# Altium footprint library FOC-PMSM1.PcbLib: 24 footprints (part 2 of 2)
Each footprint in its own frame and in the unit in brackets; x right, y up, seen from the top. Pads: shape width x height; smd on the part's side, far side on the other; paste and mask are expansions set on the pad; w line width, h text height; cw(c..) or ccw(c..) is an arc to the next point about the centre after c.
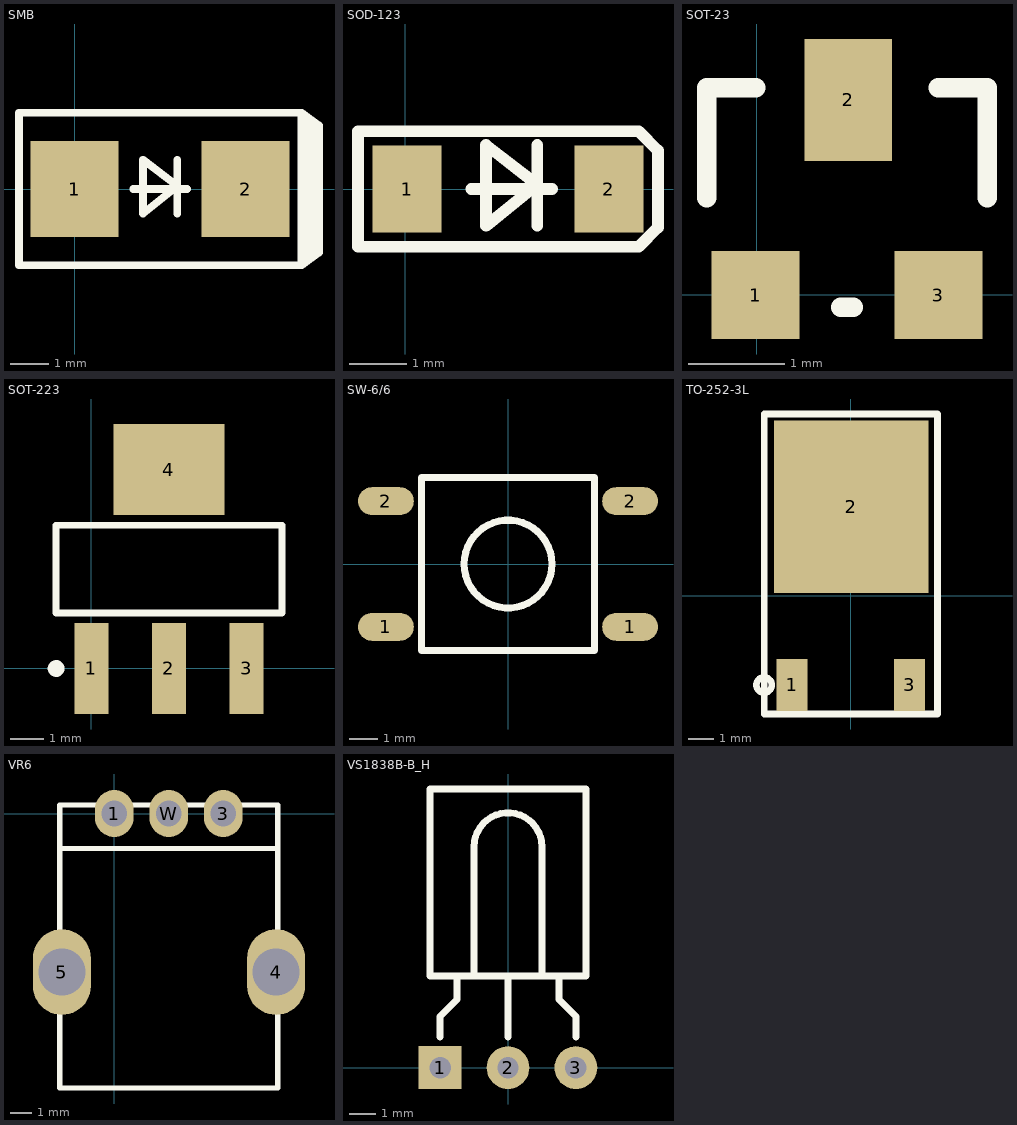
[diagram p1: the footprints below, top view; thin cyan lines are the x and y axes]

## SMB [mil]
pads (2):
  rect 90x98 smd mask+2: 1(0,0) 2(175,0)
Top Overlay:
  rectangle: 231.97,-64.99 249.97,65.01
  lines w8: 60,0 115,0 ; 105,-25 105,30 ; 232,-70 250,-65 ; 232,70 250,65 ; 232,-78 250,-65 ; 232,-78 232,78 ; 232,-78 -57,-78 -57,78 232,78 ; 232,78 250,65 ; 250,-65 250,65 ; 70,-25 105,3 70,30 70,-25
3D body "User Library-DO-214AA SMB.STEP": height 90.65, standoff 0, extent -19.29,-70.87 193.3,70.87

## SOD-123 [mm]
pads (2):
  rect 1.2x1.5 smd: 1(0.028,0) 2(3.528,0)
Top Overlay:
  lines w0.203: 1.143,0 2.54,0 ; 2.286,-0.635 2.286,0.762 ; -0.822,-1 4.045,-1 4.378,-0.667 4.378,0.667 4.045,1 -0.822,1 -0.822,0 -0.822,-1 ; 1.397,-0.635 1.397,0.762 2.286,0.076 1.397,-0.635
3D body "CircuitWorks-SOD123.STEP": height 1.27, standoff 0, extent -0.072,-0.774 3.628,0.826

## SOT-23 [mil]
pads (3):
  rect 36x36 smd: 1(-0.51,-0.15) 3(74.49,-0.15)
  rect 36x50 smd: 2(37.49,79.85)
Top Overlay:
  lines w8: -20.51,39.85 -20.51,84.85 -0.51,84.85 ; 34.49,-5.15 39.49,-5.15 ; 74.49,84.85 94.49,84.85 94.49,39.85
3D body "CircuitWorks-SOT-23.STEP": height 41.34, standoff -1.97, extent -22.05,-13.21 96.06,85.21

## SOT-223 [mm]
pads (4):
  rect 1x2.7 smd: 1(0,0) 2(2.3,0) 3(4.6,0)
  rect 3.3x2.7 smd: 4(2.3,5.9)
Top Overlay:
  circle w0.25: c-1.05,0 r0.125
  lines w0.203: -1.05,1.65 5.65,1.65 5.65,4.25 -1.05,4.25 -1.05,1.65
3D body "SOT223.STEP": height 1.65, standoff -0.02, extent -0.94,-0.587 5.56,6.429

## SW-6/6 [mm]
pads (4):
  oval 2x1 smd: 1(-4.37,-2.25) 1(4.37,-2.25) 2(-4.37,2.25) 2(4.37,2.25)
Top Overlay:
  circle w0.254: c0.002,-0.002 r1.571
  lines w0.254: -3.1,-3.1 -3.1,3.1 3.1,3.1 3.1,-3.1 -3.1,-3.1
3D body "SMD-6X6X5.STEP": height 4.95, standoff -0.03, extent -4.424,-2.921 4.576,3.079

## TO-252-3L [mm]
pads (3):
  rect 1.2x2 smd: 1(-2.28,-3.457) 3(2.28,-3.457)
  rect 6x6.7 smd: 2(0.02,3.457)
Top Overlay:
  circle w0.254: c-3.365,-3.457 r0.3
  lines w0.254: -3.365,-4.583 3.365,-4.583 3.365,7.058 -3.365,7.058 -3.365,2.783 -3.365,-4.583
3D body "User Library-DPAK_TO-252AA.STEP": height 2.37, standoff -0.03, extent -3.367,-3.786 3.367,6.314

## VR6 [mm]
pads (5):
  oval 1.8x2.2 hole 1.2: 1(0,0) 3(5.08,0) W(2.54,0)
  oval 2.7x4 hole 2.2: 4(7.55,-7.4) 5(-2.45,-7.4)
Top Overlay:
  lines w0.254: -2.54,-1.632 7.62,-1.632 ; -2.54,-12.808 -2.54,0.4 7.62,0.4 7.62,-12.808 -2.54,-12.808
3D body "User Library-RK09K1130-20-1.STEP": height 20, standoff -3.7, extent -3.209,-12.561 8.188,0.089

## VS1838B-B_H [mm]
pads (3):
  rect 1.6x1.6 hole 0.8: 1(-2.54,0)
  round 1.6 hole 0.8: 2(0,0) 3(2.54,0)
Top Overlay:
  lines w0.254: -2.54,1.143 -2.54,1.905 -1.905,2.54 -1.905,3.429 ; -1.27,3.429 -1.27,8.255 cw(c0,8.255) 1.27,8.255 1.27,3.429 ; 0,1.143 0,3.429 ; 1.905,3.429 1.905,2.54 2.54,1.905 2.54,1.143 ; -2.921,3.429 -2.921,10.414 2.921,10.414 2.921,3.429 -2.921,3.429
3D body "VS1838B-B_H-.STEP": height 5.15, standoff -3.1, extent -3.371,-0.218 3.429,10.632